# EAGLE library part CD4050 (library Aldar)
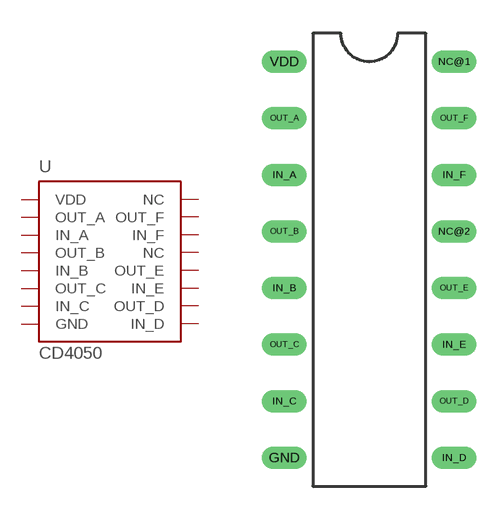
[diagram p1: symbol with the pads of CD4050; footprint CD4050]

Designator prefix -

## CD4050DIP16  [CD4050]
GND  GND  pwr
IN_A  IN_A
IN_B  IN_B
IN_C  IN_C
IN_D  IN_D
IN_E  IN_E
IN_F  IN_F
NC@1  NC  nc
NC@2  NC  nc
OUT_A  OUT_A
OUT_B  OUT_B
OUT_C  OUT_C
OUT_D  OUT_D
OUT_E  OUT_E
OUT_F  OUT_F
VDD  VDD  pwr

## Footprint CD4050 (pad centres in mm)
drill 0.5 long: GND -3.81,-8.89; IN_A -3.81,3.81; IN_B -3.81,-1.27; IN_C -3.81,-6.35; IN_D 3.81,-8.89; IN_E 3.81,-3.81; IN_F 3.81,3.81; NC@1 3.81,8.89; NC@2 3.81,1.27; OUT_A -3.81,6.35; OUT_B -3.81,1.27; OUT_C -3.81,-3.81; OUT_D 3.81,-6.35; OUT_E 3.81,-1.27; OUT_F 3.81,6.35; VDD -3.81,8.89